# EAGLE library part PTR5518 (library ng-beacon)
nRF51822-based breakout board
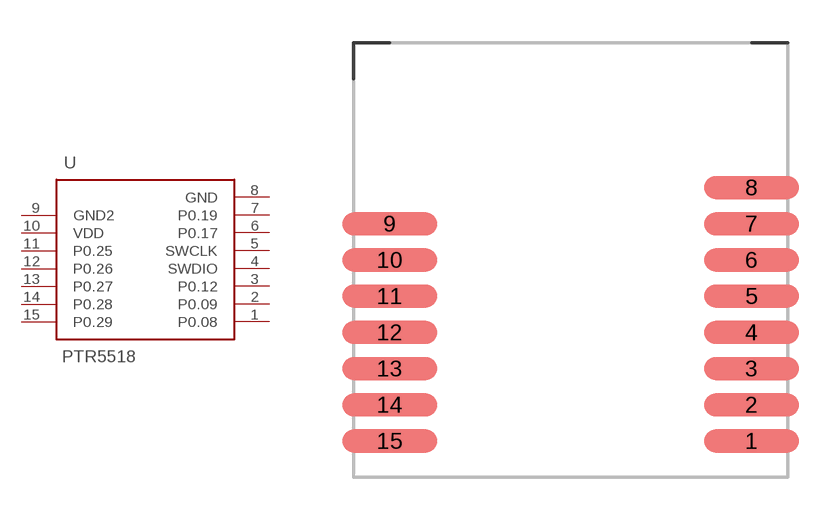
[diagram p0: symbol with the pads of PTR5518; footprint PTR5518]

Designator prefix -

## PTR5518STD  [PTR5518]
1  P0.08
2  P0.09
3  P0.12
4  SWDIO
5  SWCLK
6  P0.17
7  P0.19
8  GND  pwr
9  GND2  pwr
10  VDD  pwr
11  P0.25
12  P0.26
13  P0.27
14  P0.28
15  P0.29

## Footprint PTR5518 (pad centres in mm)
smd 3.353 x 0.813: 1 6.35,-6.35; 2 6.35,-5.08; 3 6.35,-3.81; 4 6.35,-2.54; 5 6.35,-1.27; 6 6.35,0; 7 6.35,1.27; 8 6.35,2.54; 9 -6.35,1.27; 10 -6.35,0; 11 -6.35,-1.27; 12 -6.35,-2.54; 13 -6.35,-3.81; 14 -6.35,-5.08; 15 -6.35,-6.35